# EAGLE library part DF40 (library BaseApp)
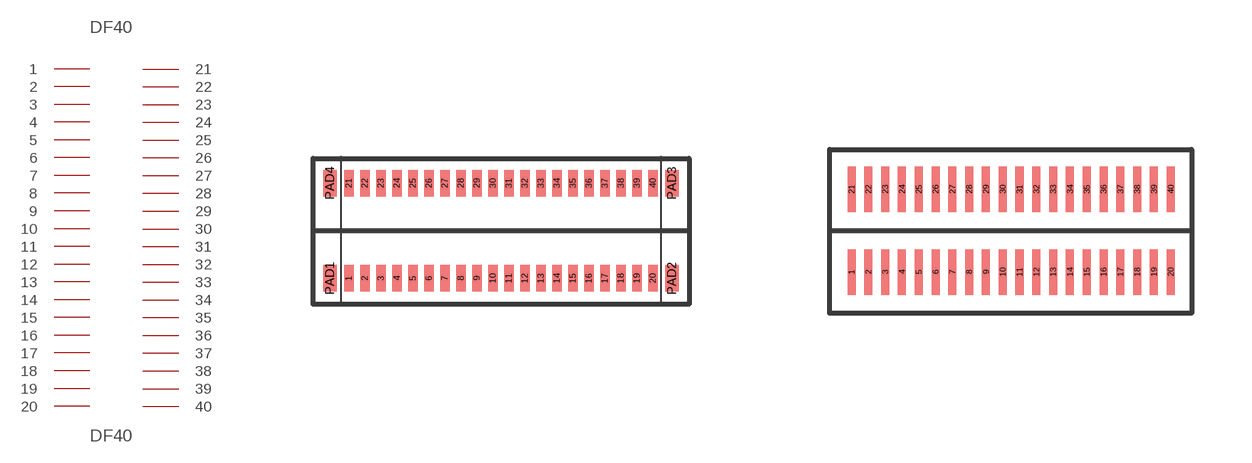
[diagram p20: symbol with the pads of 40DF_HEADER; footprints 40DF_HEADER, 40DF_RECEPTOR]

Designator prefix DF40

## DF40-HEADER  [40DF_HEADER]
1  1
2  2
3  3
4  4
5  5
6  6
7  7
8  8
9  9
10  10
11  11
12  12
13  13
14  14
15  15
16  16
17  17
18  18
19  19
20  20
21  21
22  22
23  23
24  24
25  25
26  26
27  27
28  28
29  29
30  30
31  31
32  32
33  33
34  34
35  35
36  36
37  37
38  38
39  39
40  40

## DF40-RECEPTOR  [40DF_RECEPTOR]
Pads as for 40DF_HEADER

## Footprint 40DF_HEADER (pad centres in mm)
smd 0.23 x 0.66: 1 -3.81,-1.27; 2 -3.41,-1.27; 3 -3.01,-1.27; 4 -2.61,-1.27; 5 -2.21,-1.27; 6 -1.81,-1.27; 7 -1.41,-1.27; 8 -1.01,-1.27; 9 -0.61,-1.27; 10 -0.21,-1.27; 11 0.19,-1.27; 12 0.59,-1.27; 13 0.99,-1.27; 14 1.39,-1.27; 15 1.79,-1.27; 16 2.19,-1.27; 17 2.59,-1.27; 18 2.99,-1.27; 19 3.39,-1.27; 20 3.79,-1.27; 21 -3.81,1.11; 22 -3.41,1.11; 23 -3.01,1.11; 24 -2.61,1.11; 25 -2.21,1.11; 26 -1.81,1.11; 27 -1.41,1.11; 28 -1.01,1.11; 29 -0.61,1.11; 30 -0.21,1.11; 31 0.19,1.11; 32 0.59,1.11; 33 0.99,1.11; 34 1.39,1.11; 35 1.79,1.11; 36 2.19,1.11; 37 2.59,1.11; 38 2.99,1.11; 39 3.39,1.11; 40 3.79,1.11
smd 0.35 x 0.66: PAD1 -4.285,-1.27; PAD2 4.265,-1.27; PAD3 4.265,1.11; PAD4 -4.285,1.11

## Footprint 40DF_RECEPTOR (pad centres in mm)
smd 0.2 x 1.14: 1 -4.01,-1; 2 -3.59,-1; 3 -3.17,-1; 4 -2.75,-1; 5 -2.33,-1; 6 -1.91,-1; 7 -1.49,-1; 8 -1.07,-1; 9 -0.65,-1; 10 -0.23,-1; 11 0.19,-1; 12 0.61,-1; 13 1.03,-1; 14 1.45,-1; 15 1.87,-1; 16 2.29,-1; 17 2.71,-1; 18 3.13,-1; 19 3.55,-1; 20 3.97,-1; 21 -4.01,1.07; 22 -3.59,1.07; 23 -3.17,1.07; 24 -2.75,1.07; 25 -2.33,1.07; 26 -1.91,1.07; 27 -1.49,1.07; 28 -1.07,1.07; 29 -0.65,1.07; 30 -0.23,1.07; 31 0.19,1.07; 32 0.61,1.07; 33 1.03,1.07; 34 1.45,1.07; 35 1.87,1.07; 36 2.29,1.07; 37 2.71,1.07; 38 3.13,1.07; 39 3.55,1.07; 40 3.97,1.07